# Altium schematic symbol library MainBoard_Schlib1.SchLib: 2 symbols
Pins are listed as number, name and electrical type; pins without a type are passive.

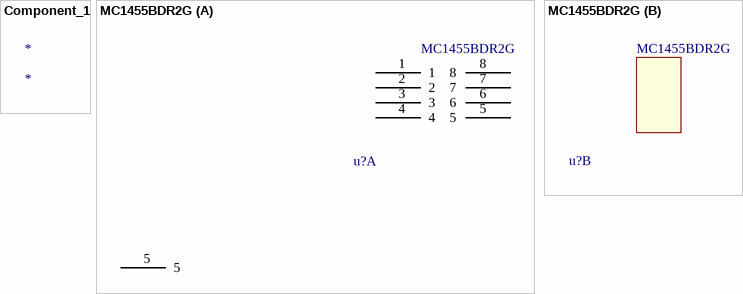
[diagram p0: symbols Component_1 to MC1455BDR2G]

## Component_1
designator *

## MC1455BDR2G
designator u?
Standard Timer Single 8-Pin SOIC N T/R; Manufacturer: ON Semiconductor; Max Power Dissipation: 625mW; Max Supply Voltage: 16V; Min Supply Voltage: 4.5V; Nominal Supply Current: 10mA; Number of Timers/Counters: 1; High Level Output Current: -200mA; Low Level Output Current: 200mA; Quiescent Current: 15mA; Current Rating: 10A; Supplier 1: Digi-Key; RoHS: Yes; Category: Timers and Oscillators; Stock 1: 2337; Pricing 1: 2500=0.19251, 5000=0.18009, 12500=0.17388 (USD); Mount: Surface Mount; Case/Package: SOIC; Number of Pins: 8; Contact Plating: Tin,Matte; Min Operating Temperature: -40°C; Max Operating Temperature: 85°C; Packaging: Tape and Reel; Package Quantity: 2500; Operating Supply Current: 10mA; Power Dissipation: 625mW; Length: 5mm; Height: 1.5mm; Width: 4mm; Radiation Hardening: No; Lead Free: Lead Free; Halogen Free: Halogen Free; ComponentLink1URL: https://datasheet.ciiva.com/4772/mc1455-d-37778-4772593.pdf?src-supplier=Mouser; ComponentLink1Description: https://datasheet.ciiva.com/4772/mc1455-d-37778-4772593.pdf?src-supplier=Mouser; ComponentLink2URL: https://datasheet.ciiva.com/6667/mc1455-d-6667991.pdf?src-supplier=Digi-Key; ComponentLink2Description: https://datasheet.ciiva.com/6667/mc1455-d-6667991.pdf?src-supplier=Digi-Key; ComponentLink3URL: https://datasheet.ciiva.com/1499/mc1455-d-1499595.pdf?src-supplier=Farnell; ComponentLink3Description: https://datasheet.ciiva.com/1499/mc1455-d-1499595.pdf?src-supplier=Farnell; ComponentLink4URL: https://datasheet.ciiva.com/1492/mc1455-d-1492517.pdf?src-supplier=Element14; ComponentLink4Description: https://datasheet.ciiva.com/1492/mc1455-d-1492517.pdf?src-supplier=Element14; ComponentLink5URL: https://datasheet.ciiva.com/6667/mc1455-d-6667989.pdf?src-supplier=Digi-Key; ComponentLink5Description: https://datasheet.ciiva.com/6667/mc1455-d-6667989.pdf?src-supplier=Digi-Key; ComponentLink6URL: https://datasheet.ciiva.com/16386/mc1455-d-16386965.pdf?src-supplier=Future+Electronics; ComponentLink6Description: https://datasheet.ciiva.com/16386/mc1455-d-16386965.pdf?src-supplier=Future+Electronics; ComponentLink7URL: https://datasheet.ciiva.com/15152/getdatasheetpartid-79906-15152567.pdf?src-supplier=Verical; ComponentLink7Description: https://datasheet.ciiva.com/15152/getdatasheetpartid-79906-15152567.pdf?src-supplier=Verical; ComponentLink8URL: https://datasheet.ciiva.com/48908/70339970-48908778.pdf?src-supplier=Allied+Electronics; ComponentLink8Description: https://datasheet.ciiva.com/48908/70339970-48908778.pdf?src-supplier=Allied+Electronics; ComponentLink9URL: https://datasheet.ciiva.com/26115/mc1455-d-26115868.pdf?src-supplier=Avnet+Europe; ComponentLink9Description: https://datasheet.ciiva.com/26115/mc1455-d-26115868.pdf?src-supplier=Avnet+Europe; Supplier Part Number 1: MC1455BDR2GOSTR-ND; Manufacturer Part Number: MC1455BDR2G
footprint SOIC127P600X175-8N (SOIC, 8-Leads, Body 4.90x3.90mm, Pitch 1.27mm, IPC Medium Density)
part A pins: 1, 2, 3, 4, 5, 5, 6, 7, 8